# Altium schematic symbol library LOAD_SCH_LIB.SchLib: 9 symbols
Pins are listed as number, name and electrical type; pins without a type are passive.

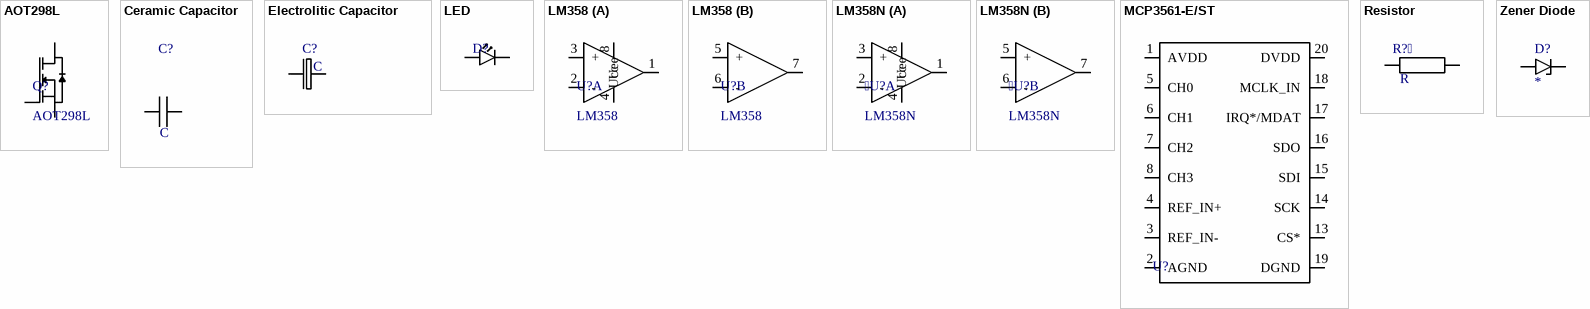
[diagram p0: symbols AOT298L to Zener Diode]

## AOT298L
designator Q?
NMOS / VGS = 100V / IDmax = 41A / Rdson = 14.5mOhm
pins: 1 G, 2 D, 3 S

## Ceramic Capacitor
designator C?  Capacitance: C  (hidden comment: *)
footprint 1206 package
pins: 1, 2

## Electrolitic Capacitor
designator C?  Capacitance: C
SMD Capacitor
footprint B package
pins: 1, 2

## LED
designator D?  (value not drawn)
SMD LED
footprint 1206 LED
pins: 1, 2

## LM358
designator U?
part A pins: 1, 2 -, 3 +, 4 Uee, 8 Ucc
part B pins: 5 +, 6 -, 7

## LM358N
designator U?
TL072CD-T Dual OPAMP
footprint SO 08 (SOIC, 8-Leads, Body 4,90x3,90mm, Pitch 1,27mm, IPC Medium Density)
part A pins: 1, 2 -, 3 +, 4 Uee, 8 Ucc
part B pins: 5 +, 6 -, 7

## MCP3561-E/ST
designator U?
pins: 1 AVDD, 2 AGND, 3 REF_IN-, 4 REF_IN+, 5 CH0, 6 CH1, 7 CH2, 8 CH3, 13 CS*, 14 SCK, 15 SDI, 16 SDO, 17 IRQ*/MDAT, 18 MCLK_IN, 19 DGND, 20 DVDD

## Resistor
designator R?, comment Resistance: R  (hidden comment: SMD Resistor)
footprint 1206 package
pins: 1, 2

## Zener Diode
designator D?  (value not drawn)
Model: model; UR: *
footprint SOD80C
pins: 1 A, 2 K